# Altium schematic symbol library triac.SCHLIB: 25 symbols
Pins are listed as number, name and electrical type; pins without a type are passive.

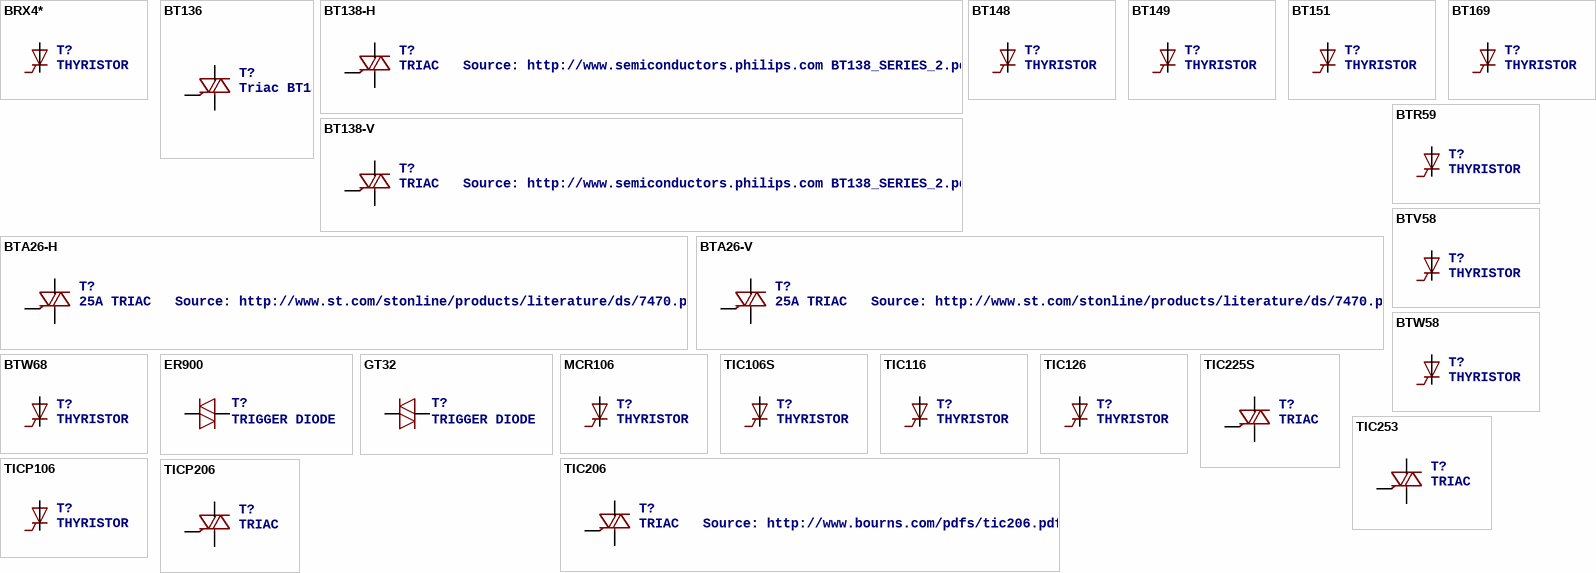
[diagram p0: symbols BRX4* to TICP206]

## BRX4*
designator T?, comment THYRISTOR
footprint SOT54
pins: A, C, G

## BT136
designator T?, comment Triac BT136 series E sensitive gate   Source: http://www.nxp.com/acrobat_download/datasheets/BT136_SERIES_E_2.pdf
footprint TO220AB
pins: 1 A1, 2 A2, 3 G

## BT138-H
designator T?, comment TRIAC   Source: http://www.semiconductors.philips.com BT138_SERIES_2.pdf
footprint TO220BH
pins: G, T1 A1, T2 A2

## BT138-V
designator T?, comment TRIAC   Source: http://www.semiconductors.philips.com BT138_SERIES_2.pdf
footprint TO220BV
pins: G, T1 A1, T2 A2

## BT148
designator T?, comment THYRISTOR
footprint SOT82S
pins: A, C, G

## BT149
designator T?, comment THYRISTOR
footprint TO92-4
pins: A, C, G

## BT151
designator T?, comment THYRISTOR
footprint TO220CL
pins: A, C, G

## BT169
designator T?, comment THYRISTOR
footprint TO92-2
pins: A, C, G

## BTA26-H
designator T?, comment 25A TRIAC   Source: http://www.st.com/stonline/products/literature/ds/7470.pdf
footprint TOP3L-1
pins: A1, A2, G

## BTA26-V
designator T?, comment 25A TRIAC   Source: http://www.st.com/stonline/products/literature/ds/7470.pdf
footprint TOP3S-1
pins: A1, A2, G

## BTR59
designator T?, comment THYRISTOR
footprint SOT93S
pins: A, C, G

## BTV58
designator T?, comment THYRISTOR
footprint TO220CS
pins: A, C, G

## BTW58
designator T?, comment THYRISTOR
footprint TO220CS
pins: A, C, G

## BTW68
designator T?, comment THYRISTOR
footprint TOP3S-2
pins: A, C, G

## ER900
designator T?, comment TRIGGER DIODE
footprint ER900
pins: 1, 2

## GT32
designator T?, comment TRIGGER DIODE
footprint GT32
pins: 1, 2

## MCR106
designator T?, comment THYRISTOR
footprint TO126L
pins: A, C, G

## TIC106S
designator T?, comment THYRISTOR
footprint TIC106S
pins: A, C, G

## TIC116
designator T?, comment THYRISTOR
footprint TO220CS
pins: A, C, G

## TIC126
designator T?, comment THYRISTOR
footprint TO220CS
pins: A, C, G

## TIC206
designator T?, comment TRIAC   Source: http://www.bourns.com/pdfs/tic206.pdf
footprint TO220BV
pins: G, T1 A1, T2 A2

## TIC225S
designator T?, comment TRIAC
footprint TO220DS
pins: A1, A2, G

## TIC253
designator T?, comment TRIAC
footprint TO218DS
pins: A1, A2, G

## TICP106
designator T?, comment THYRISTOR
footprint TO92-5
pins: A, C, G

## TICP206
designator T?, comment TRIAC
footprint TO92-6
pins: A1, A2, G